# EAGLE library part MTCH6301-I/PT (library mtch6301)
IC, TOUCH CTRLR, 44TQFP
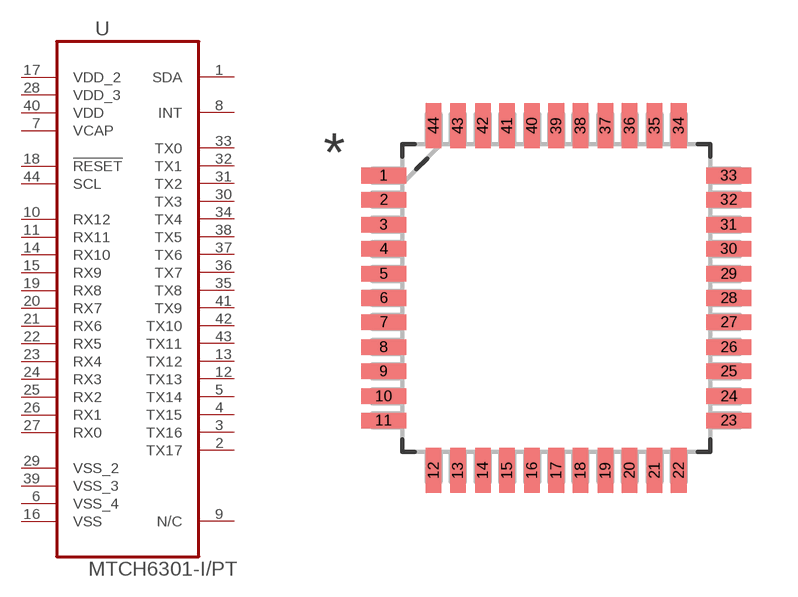
[diagram p0: symbol with the pads of TQFP80P1200X1200X120-44N; footprint TQFP80P1200X1200X120-44N]

Designator prefix U

## MTCH6301-I/PT (MPN: MTCH6301-I/PT; OC_FARNELL: 2301095; OC_NEWARK: 69W0668; PACKAGE: 44TQFP; SUPPLIER: Microchip)  [TQFP80P1200X1200X120-44N]
1  SDA
2  TX17  out
3  TX16  out
4  TX15  out
5  TX14  out
6  VSS_4  pwr
7  VCAP  pwr
8  INT  out
9  N/C  nc
10  RX12
11  RX11
12  TX13  out
13  TX12  out
14  RX10
15  RX9
16  VSS  pwr
17  VDD_2  pwr
18  !RESET  in
19  RX8
20  RX7
21  RX6
22  RX5
23  RX4
24  RX3
25  RX2
26  RX1
27  RX0
28  VDD_3  pwr
29  VSS_2  pwr
30  TX3  out
31  TX2  out
32  TX1  out
33  TX0  out
34  TX4  out
35  TX8  out
36  TX7  out
37  TX6  out
38  TX5  out
39  VSS_3  pwr
40  VDD  pwr
41  TX9  out
42  TX10  out
43  TX11  out
44  SCL  in

## Footprint TQFP80P1200X1200X120-44N (pad centres in mm)
smd 1.473 x 0.508: 1 -5.613,3.988; 2 -5.613,3.2; 3 -5.613,2.388; 4 -5.613,1.6; 5 -5.613,0.787; 6 -5.613,0; 7 -5.613,-0.787; 8 -5.613,-1.6; 9 -5.613,-2.388; 10 -5.613,-3.2; 11 -5.613,-3.988; 23 5.613,-3.988; 24 5.613,-3.2; 25 5.613,-2.388; 26 5.613,-1.6; 27 5.613,-0.787; 28 5.613,0; 29 5.613,0.787; 30 5.613,1.6; 31 5.613,2.388; 32 5.613,3.2; 33 5.613,3.988
smd 0.508 x 1.473: 12 -3.988,-5.613; 13 -3.2,-5.613; 14 -2.388,-5.613; 15 -1.6,-5.613; 16 -0.787,-5.613; 17 0,-5.613; 18 0.787,-5.613; 19 1.6,-5.613; 20 2.388,-5.613; 21 3.2,-5.613; 22 3.988,-5.613; 34 3.988,5.613; 35 3.2,5.613; 36 2.388,5.613; 37 1.6,5.613; 38 0.787,5.613; 39 0,5.613; 40 -0.787,5.613; 41 -1.6,5.613; 42 -2.388,5.613; 43 -3.2,5.613; 44 -3.988,5.613